# Altium footprint library valves.PcbLib: 12 footprints
Each footprint in its own frame and in the unit in brackets; x right, y up, seen from the top. Pads: shape width x height; smd on the part's side, far side on the other; paste and mask are expansions set on the pad; w line width, h text height; cw(c..) or ccw(c..) is an arc to the next point about the centre after c.
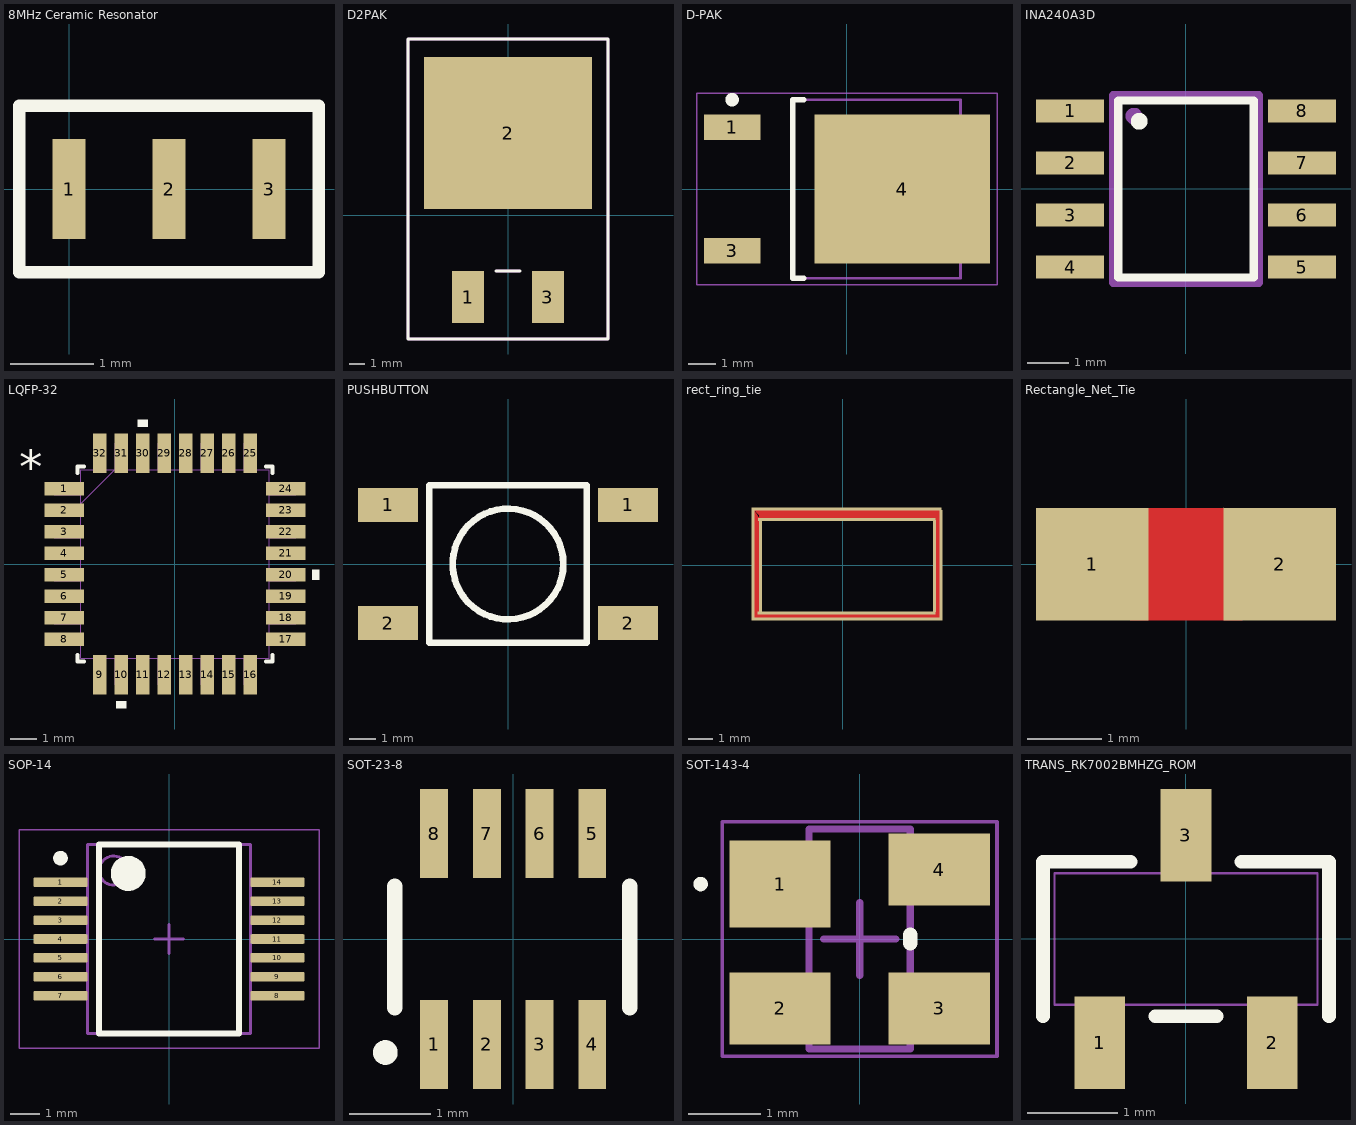
[diagram p0: the footprints below, top view; thin cyan lines are the x and y axes]

## 8MHz Ceramic Resonator [mm] "8MHz Ceramic Resonator Murata"
pads (3):
  rect 0.4x1.2 smd: 1(0,0) 2(1.2,0) 3(2.4,0)
Top Overlay:
  lines w0.15: -0.6,-1 3,-1 3,1 -0.6,1 -0.6,-1

## D2PAK [mil]
pads (3):
  rect 80x130 smd: 1(-100,-205) 3(100,-205)
  rect 420x380 smd: 2(0,205)
Top Overlay:
  lines w7.87: -30,-140 30,-140 ; -250,-310 250,-310 250,440 -250,440 -250,0 -250,-310
Mechanical 1:
  lines w7.87: -30,-140 30,-140 ; -250,-310 250,-310 250,440 -250,440 -250,0 -250,-310
  text "'.Designator'" at -226.06,-276.88 h27.56
3D body "D2PAK-2 L7805.step": height 200.5, standoff 0.5, extent -196.84,-254.96 196.86,360.17

## D-PAK [mm] "D-PAK, 4-Leads, Body 6.1x6.5mm, Pitch 2.28mm, Lead Span 9.7mm, IPC Medium Density"
height 2.4
pads (3):
  rect 2.1x0.95 smd: 1(-4.25,2.28) 3(-4.25,-2.28)
  rect 6.5x5.5 smd: 4(2.05,0)
Top Overlay:
  circle w0.25: c-4.25,3.305 r0.125
  lines w0.2: -1.6,-3.3 -2,-3.3 -2,3.3 -1.6,3.3
Mechanical 13:
  lines w0.1: -2,-3.3 -2,3.3 4.2,3.3 4.2,-3.3 -2,-3.3
Mechanical 15:
  lines w0.05: -5.55,-3.55 -5.55,3.55 5.55,3.55 5.55,-3.55 -5.55,-3.55
  lines w0.1: -0.5,0 0.5,0 ; 0,-0.5 0,0.5
3D body "User Library-TO252AA.step": height 2.3, standoff -0.01, extent -4.596,-3.278 5.104,3.302

## INA240A3D [mil] "Footprint for TI current sense op amp"
pads (8):
  rect 65.5x22 smd paste+0 mask+0: 1(-111.25,75) 2(-111.25,25) 3(-111.25,-25) 4(-111.25,-75) 5(111.25,-75) 6(111.25,-25) 7(111.25,25) 8(111.25,75)
Top Overlay:
  circle w10: c-45,65 r3
  lines w7.87: -65,-85 65,-85 65,85 -65,85 -65,-85
Mechanical 1:
  circle w10: c-50,70 r3
  lines w7.87: -70,-90 70,-90 70,90 -70,90 -70,-90
  text "'.Designator'" at -56.06,-66.88 h27.56
3D body "D8_TEX-M.step": height 69.09, standoff 0, extent -122,-98.5 122.01,98.5

## LQFP-32 [mil]
pads (32):
  rect 58x20 smd paste+0 mask+0: 1(-162,110.24) 2(-162,78.74) 3(-162,47.24) 4(-162,15.75) 5(-162,-15.75) 6(-162,-47.24) 7(-162,-78.74) 8(-162,-110.24) 17(162,-110.24) 18(162,-78.74) 19(162,-47.24) 20(162,-15.75) 21(162,15.75) 22(162,47.24) 23(162,78.74) 24(162,110.24)
  rect 20x58 smd paste+0 mask+0: 9(-110.24,-162) 10(-78.74,-162) 11(-47.24,-162) 12(-15.75,-162) 13(15.75,-162) 14(47.24,-162) 15(78.74,-162) 16(110.24,-162) 25(110.24,162) 26(78.74,162) 27(47.24,162) 28(15.75,162) 29(-15.75,162) 30(-47.24,162) 31(-78.74,162) 32(-110.24,162)
Top Overlay:
  region: -39.74,201 -54.74,201 -54.74,211 -39.74,211
  region: 201,-8.25 211,-8.25 211,-23.25 201,-23.25
  region: -71.24,-201 -86.24,-201 -86.24,-211 -71.24,-211
  lines w6: -143,-133.34 -143,-143 -133.34,-143 ; -143,133.34 -143,143 -133.34,143 ; 133.34,-143 143,-143 143,-133.34 ; 133.34,143 143,143 143,133.34
  text "*" at -228.5,115.98 h50
Mechanical 1:
  lines w1: -138,88 -88,138 ; -177,-119.24 -138,-119.24 -138,-101.24 -177,-101.24 -177,-119.24 ; -177,-87.74 -138,-87.74 -138,-69.74 -177,-69.74 -177,-87.74 ; -177,-56.24 -138,-56.24 -138,-38.24 -177,-38.24 -177,-56.24 ; -177,-24.75 -138,-24.75 -138,-6.75 -177,-6.75 -177,-24.75 ; -177,6.75 -138,6.75 -138,24.75 -177,24.75 -177,6.75 ; -177,38.24 -138,38.24 -138,56.24 -177,56.24 -177,38.24 ; -177,69.74 -138,69.74 -138,87.74 -177,87.74 -177,69.74 ; -177,101.24 -138,101.24 -138,119.24 -177,119.24 -177,101.24 ; -138,-138 -138,138 138,138 138,-138 -138,-138 ; -119.24,-177 -101.24,-177 -101.24,-138 -119.24,-138 -119.24,-177 ; -119.24,138 -119.24,177 -101.24,177 -101.24,138 -119.24,138 ; -87.74,-177 -69.74,-177 -69.74,-138 -87.74,-138 -87.74,-177 ; -87.74,138 -87.74,177 -69.74,177 -69.74,138 -87.74,138 ; -56.24,-177 -38.24,-177 -38.24,-138 -56.24,-138 -56.24,-177 ; -56.24,138 -56.24,177 -38.24,177 -38.24,138 -56.24,138 ; -24.75,-177 -6.75,-177 -6.75,-138 -24.75,-138 -24.75,-177 ; -24.75,138 -24.75,177 -6.75,177 -6.75,138 -24.75,138 ; 6.75,-177 24.75,-177 24.75,-138 6.75,-138 6.75,-177 ; 6.75,138 6.75,177 24.75,177 24.75,138 6.75,138 ; 38.24,-177 56.24,-177 56.24,-138 38.24,-138 38.24,-177 ; 38.24,138 38.24,177 56.24,177 56.24,138 38.24,138 ; 69.74,-177 87.74,-177 87.74,-138 69.74,-138 69.74,-177 ; 69.74,138 69.74,177 87.74,177 87.74,138 69.74,138 ; 101.24,-177 119.24,-177 119.24,-138 101.24,-138 101.24,-177 ; 101.24,138 101.24,177 119.24,177 119.24,138 101.24,138 ; 138,-119.24 177,-119.24 177,-101.24 138,-101.24 138,-119.24 ; 138,-87.74 177,-87.74 177,-69.74 138,-69.74 138,-87.74 ; 138,-56.24 177,-56.24 177,-38.24 138,-38.24 138,-56.24 ; 138,-24.75 177,-24.75 177,-6.75 138,-6.75 138,-24.75 ; 138,6.75 177,6.75 177,24.75 138,24.75 138,6.75 ; 138,38.24 177,38.24 177,56.24 138,56.24 138,38.24 ; 138,69.74 177,69.74 177,87.74 138,87.74 138,69.74 ; 138,101.24 177,101.24 177,119.24 138,119.24 138,101.24
  text "*" at -135.5,100.98 h50
3D body: height 10, standoff 0, extent 0,0 10,10
3D body "LQFP-32.step": height 63.61, standoff 0.5, extent -177,-177.01 177.02,177.01

## PUSHBUTTON [mil]
pads (4):
  rect 90x51.18 smd: 1(-180,88.58) 1(180,88.58) 2(-180,-88.58) 2(180,-88.58)
Top Overlay:
  circle w10: c0,0 r83.05
  lines w10: -118.11,-118.11 -118.11,118.11 118.11,118.11 118.11,-118.11 -118.11,-118.11
3D body "TL3301AFxxxxG.stp": height 201.57, standoff 0.79, extent -196.85,-118.11 196.85,118.11

## rect_ring_tie [mil]
pads (8):
  rect 5x180 smd mask+2: 1(-146,2) 1(160.69,0.11)
  rect 310x5 smd mask+2: 1(6.5,-88) 1(6.5,92)
  rect 5x150 smd mask+2: 2(-134,-1) 2(149.91,-1)
  rect 290x5 smd mask+2: 2(6.5,-78) 2(7.11,74.94)
Top Layer:
  region: -146,92 -146,-88 159,-88 159,92 -146,92 -136,77 149,77 149,-78 -136,-78 -136,82

## Rectangle_Net_Tie [mil]
pads (2):
  rect 60x60 smd mask+4: 1(-50,0) 2(50,0)
Top Layer:
  rectangle: -30,-30 30,30

## SOP-14 [mm] "SOP, 14-Leads, Body 5.6x6.5mm, Pitch 0.65mm, IPC Low Density"
height 2
pads (14):
  rrect22% 1.85x0.33 smd: 1(-3.725,1.95) 2(-3.725,1.3) 3(-3.725,0.65) 4(-3.725,0) 5(-3.725,-0.65) 6(-3.725,-1.3) 7(-3.725,-1.95) 8(3.725,-1.95) 9(3.725,-1.3) 10(3.725,-0.65) 11(3.725,0) 12(3.725,0.65) 13(3.725,1.3) 14(3.725,1.95)
Top Overlay:
  circle w0.6: c-1.4,2.25 r0.3
  circle w0.25: c-3.725,2.775 r0.125
  lines w0.2: -2.4,-3.25 2.4,-3.25 2.4,3.25 -2.4,3.25 -2.4,-3.25
Mechanical 1:
  text ".Designator" at -1.651,-0.381 h1
Mechanical 13:
  circle w0.1: c-1.9,2.35 r0.5
  lines w0.1: -2.8,-3.25 2.8,-3.25 2.8,3.25 -2.8,3.25 -2.8,-3.25
Mechanical 15:
  lines w0.05: -5.15,-3.75 5.15,-3.75 5.15,3.75 -5.15,3.75 -5.15,-3.75
  lines w0.1: -0.5,0 0.5,0 ; 0,-0.5 0,0.5
3D body "DB0014A.stp": height 2, standoff 0, extent -3.905,-3.1 3.906,3.1

## SOT-23-8 [mm] "SOT-23-8"
pads (8):
  rect 0.344x1.1 smd: 1(-0.975,-1.3) 2(-0.325,-1.3) 3(0.325,-1.3) 4(0.975,-1.3) 5(0.975,1.3) 6(0.325,1.3) 7(-0.325,1.3) 8(-0.975,1.3)
Top Overlay:
  circle w0.152: c-1.576,-1.4 r0.076
  lines w0.191: -1.46,-0.85 -1.46,0.65 ; 1.44,-0.85 1.44,0.65
3D body "User Library-SOT23-8.step": height 1.11, standoff 0, extent -1.5,-1.402 1.5,1.402

## SOT-143-4 [mm] "SOT143, 4-Leads, Body 3.04x1.4mm, Pitch 1.92mm"
height 1.22
pads (4):
  rect 1.4x1.2 smd: 1(-1.1,0.76)
  rect 1.4x1 smd: 2(-1.1,-0.96) 3(1.1,-0.96) 4(1.1,0.96)
Top Overlay:
  circle w0.1: c-2.2,0.76 r0.05
  lines w0.2: 0.7,-0.06 0.7,0.06
Mechanical 13:
  lines w0.1: -0.7,-1.52 0.7,-1.52 0.7,1.52 -0.7,1.52 -0.7,-1.52
Mechanical 15:
  lines w0.05: -1.9,-1.62 1.9,-1.62 1.9,1.62 -1.9,1.62 -1.9,-1.62
  lines w0.1: -0.5,0 0.5,0 ; 0,-0.5 0,0.5
3D body "User Library-SOT143-1.step": height 1.22, standoff 0, extent -1.182,-1.45 1.182,1.45

## TRANS_RK7002BMHZG_ROM [mil]
pads (3):
  rect 22x40 smd paste+0 mask+0: 1(-37.4,-45) 2(37.4,-45) 3(0,45)
Top Overlay:
  lines w6: -62,-33.5 -62,33.5 -24.1,33.5 ; -13.3,-33.5 13.3,-33.5 ; 24.1,33.5 62,33.5 62,-33.5
Mechanical 1:
  lines w1: -57,-28.5 -57,28.5 57,28.5 57,-28.5 -57,-28.5 ; -47.4,-51 -27.4,-51 -27.4,-28.5 -47.4,-28.5 -47.4,-51 ; -10,28.5 -10,51 10,51 10,28.5 -10,28.5 ; 27.4,-51 47.4,-51 47.4,-28.5 27.4,-28.5 27.4,-51
  text "'.Designator'" at -50.38,-17.52 h27.56
3D body: height 10, standoff 0, extent 0,0 10,10
3D body "TRANS_RK7002BMHZG_ROM.step": height 47.59, standoff 0.5, extent -57,-50.99 57.01,50.99